# Altium schematic symbol library TLHG5420-ASZ.SchLib: 1 symbol
Pins are listed as number, name and electrical type; pins without a type are passive.

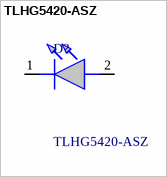
[diagram p0: symbol TLHG5420-ASZ]

## TLHG5420-ASZ
designator D?
Standard LEDs - Through Hole 5MM LED GREEN TINT. DIFFused with Standoff; Manufacturer_Name: Vishay; Geometry.Height: 12.8mm; Mouser Part Number: 78-TLHG5420-ASZ; Mouser Price/Stock: https://www.mouser.co.uk/ProductDetail/Vishay-Siliconix/TLHG5420-ASZ?qs=M%2FWrVUahkW9Iv5EBNpgqMA%3D%3D; Manufacturer_Part_Number: TLHG5420-ASZ; Datasheet Link: https://www.vishay.com/docs/86335/tlhg542_tlhg642.pdf
footprint TLHG5420ASZ
pins: 1 K, 2 A